# EAGLE library part STM32L152CCT6 (library mmoretti)
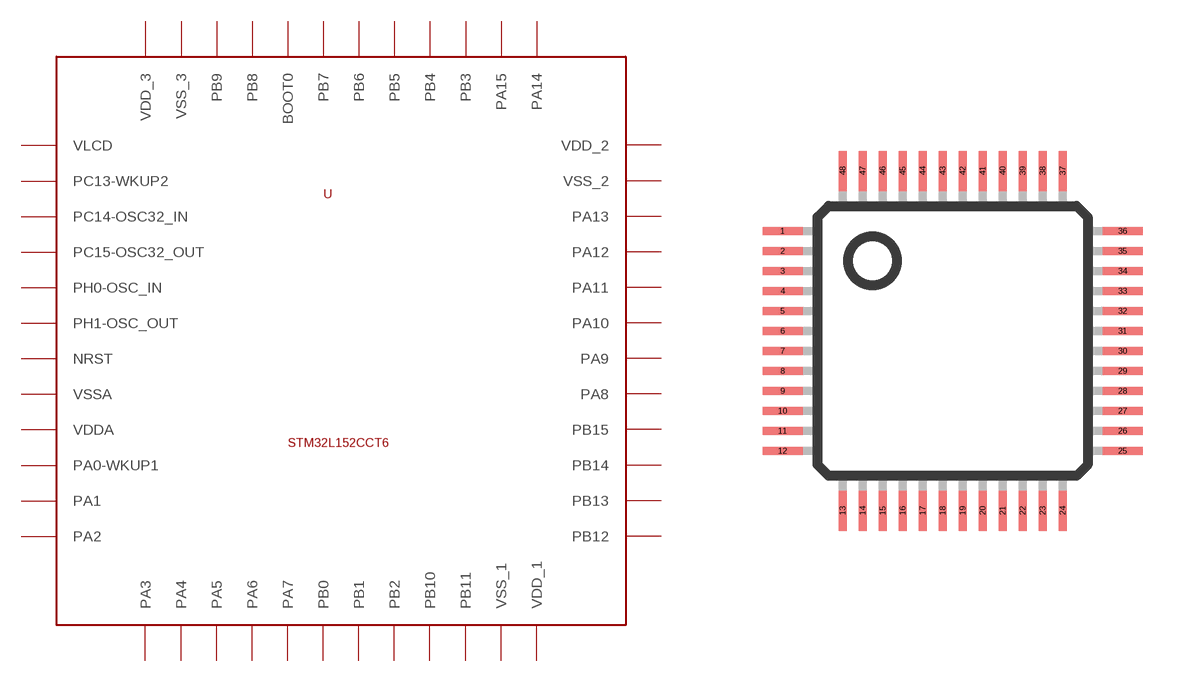
[diagram p21: symbol with the pads of LQFP48; footprint LQFP48]

Designator prefix -

## STM32L152CCT6  [LQFP48]
1  VLCD  pwr
2  PC13-WKUP2
3  PC14-OSC32_IN
4  PC15-OSC32_OUT
5  PH0-OSC_IN
6  PH1-OSC_OUT
7  NRST
8  VSSA  pwr
9  VDDA  pwr
10  PA0-WKUP1
11  PA1
12  PA2
13  PA3
14  PA4
15  PA5
16  PA6
17  PA7
18  PB0
19  PB1
20  PB2
21  PB10
22  PB11
23  VSS_1  pwr
24  VDD_1  pwr
25  PB12
26  PB13
27  PB14
28  PB15
29  PA8
30  PA9
31  PA10
32  PA11
33  PA12
34  PA13
35  VSS_2  pwr
36  VDD_2  pwr
37  PA14
38  PA15
39  PB3
40  PB4
41  PB5
42  PB6
43  PB7
44  BOOT0
45  PB8
46  PB9
47  VSS_3  pwr
48  VDD_3  pwr

## Footprint LQFP48 (pad centres in mm)
48-pin plastic LQFP (FPT-48P-M26) www.fma.fujitsu.com/pdf/e713717.pdf
smd 1 x 0.2: 1 -4.45,2.65; 2 -4.45,2.15; 3 -4.45,1.65; 4 -4.45,1.15; 5 -4.45,0.65; 6 -4.45,0.15; 7 -4.45,-0.35; 8 -4.45,-0.85; 9 -4.45,-1.35; 10 -4.45,-1.85; 11 -4.45,-2.35; 12 -4.45,-2.85; 25 4.05,-2.85; 26 4.05,-2.35; 27 4.05,-1.85; 28 4.05,-1.35; 29 4.05,-0.85; 30 4.05,-0.35; 31 4.05,0.15; 32 4.05,0.65; 33 4.05,1.15; 34 4.05,1.65; 35 4.05,2.15; 36 4.05,2.65
smd 0.2 x 1: 13 -2.95,-4.35; 14 -2.45,-4.35; 15 -1.95,-4.35; 16 -1.45,-4.35; 17 -0.95,-4.35; 18 -0.45,-4.35; 19 0.05,-4.35; 20 0.55,-4.35; 21 1.05,-4.35; 22 1.55,-4.35; 23 2.05,-4.35; 24 2.55,-4.35; 37 2.55,4.15; 38 2.05,4.15; 39 1.55,4.15; 40 1.05,4.15; 41 0.55,4.15; 42 0.05,4.15; 43 -0.45,4.15; 44 -0.95,4.15; 45 -1.45,4.15; 46 -1.95,4.15; 47 -2.45,4.15; 48 -2.95,4.15